# Altium schematic symbol library copper.SchLib: 1 symbol
Pins are listed as number, name and electrical type; pins without a type are passive.

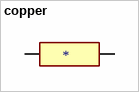
[diagram p0: symbol copper]

## copper
designator COP?  (net tie, no BOM)
pins: 1 (power), 2 (power)